# Altium schematic symbol library LED_GREEN.SchLib: 1 symbol
Pins are listed as number, name and electrical type; pins without a type are passive.

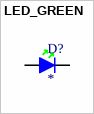
[diagram p0: symbol LED_GREEN]

## LED_GREEN
designator D?
pins: 1 K, 2 A